# Altium footprint library PCBLib.PcbLib: 168 footprints (part 7 of 11)
Each footprint in its own frame and in the unit in brackets; x right, y up, seen from the top. Pads: shape width x height; smd on the part's side, far side on the other; paste and mask are expansions set on the pad; w line width, h text height; cw(c..) or ccw(c..) is an arc to the next point about the centre after c.
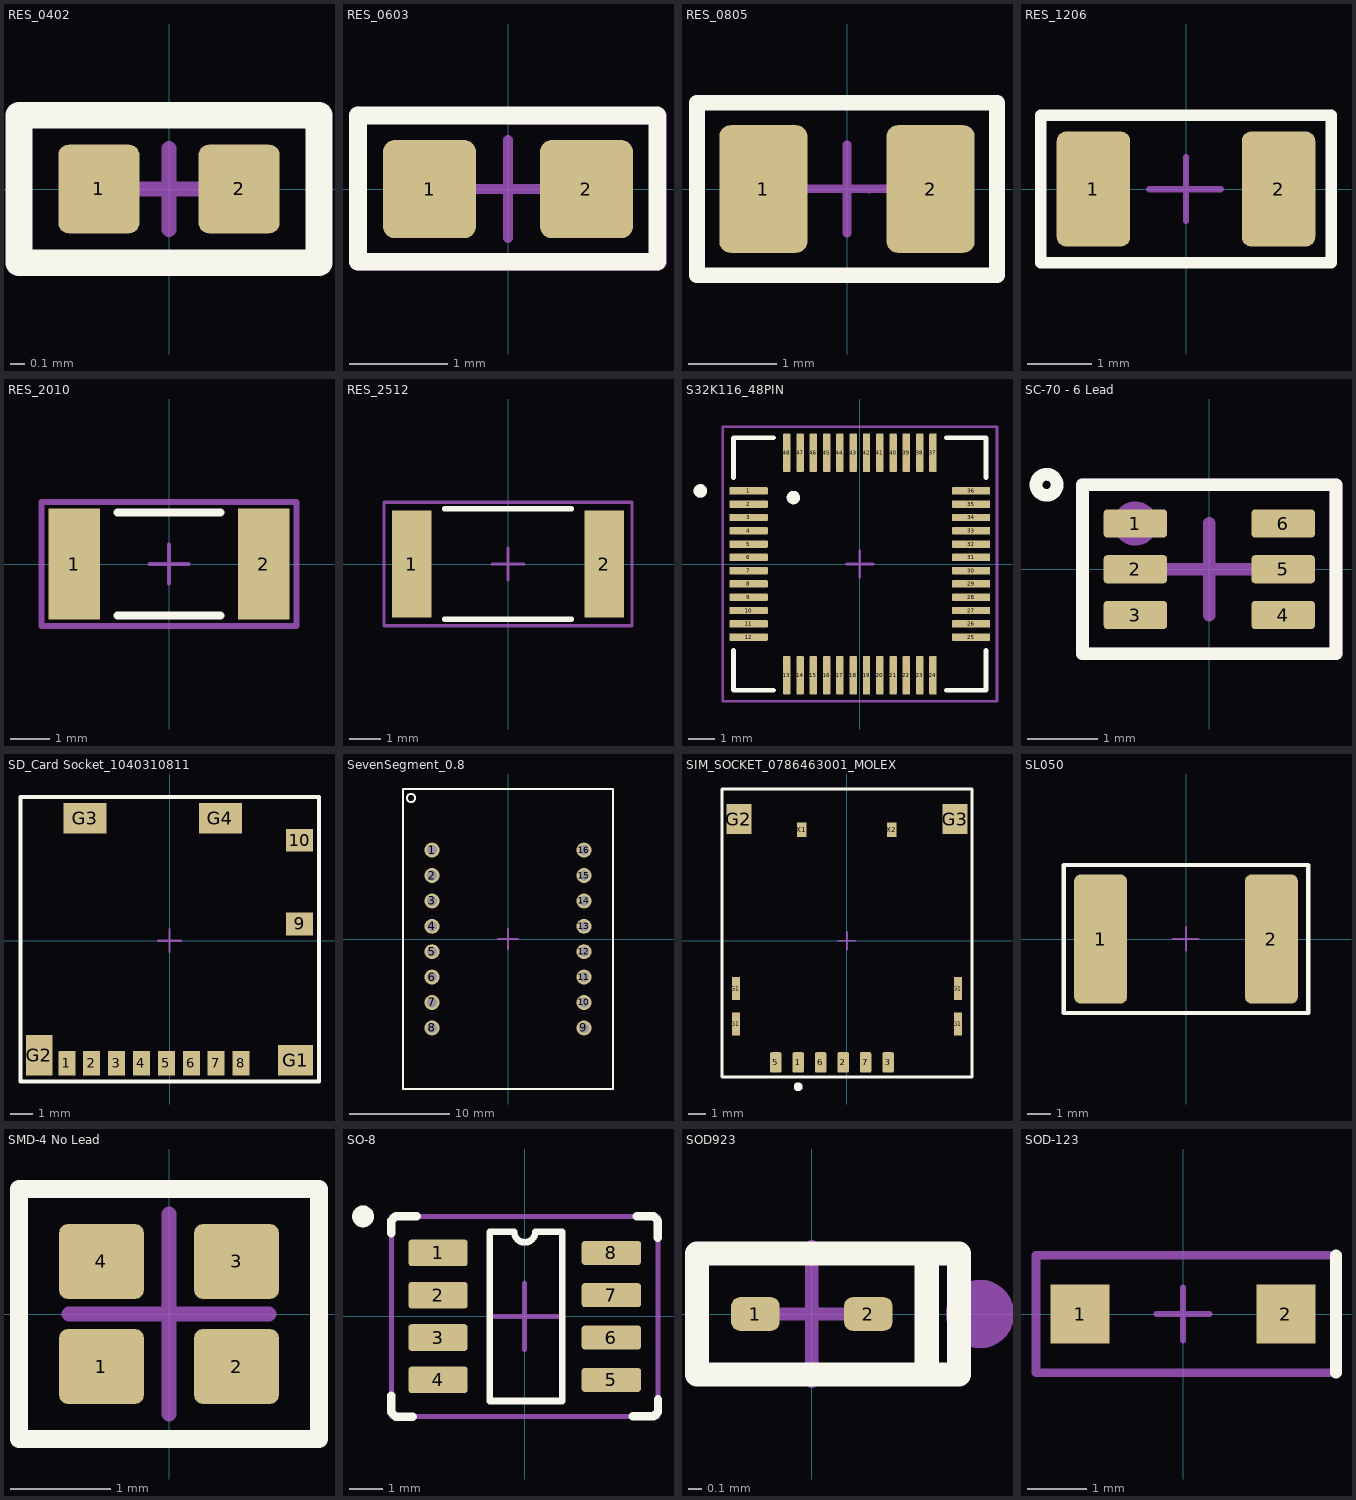
[diagram p6: the footprints below, top view; thin cyan lines are the x and y axes]

## RES_0402 [mm]
pads (2):
  rrect25% 0.55x0.6 smd mask+0.05: 1(-0.475,0) 2(0.475,0)
Top Overlay:
  lines w0.18: -1.016,-0.5 -1.016,0.5 0.762,0.5 1.016,0.5 1.016,-0.5 0.7,-0.5 -1.016,-0.5
Top Assembly:
  lines w0.1: -1.016,-0.508 -1.016,0.508 1.016,0.508 1.016,-0.508 -1.016,-0.508
Top Component Center:
  lines w0.1: -0.275,0 0.275,0 ; 0,-0.275 0,0.275
Top Courtyard:
  lines w0.05: -1.016,-0.5 -1.016,0.5 1.016,0.5 1.016,-0.5 -1.016,-0.5
Top Designator:
  text ".Designator" at -3.809,-0.254 h0.76
3D body "SMD-RES-10K-5_-1__0402_.step": height 0.4, standoff 0, extent -0.5,-0.25 0.5,0.25

## RES_0603 [mm]
pads (2):
  rrect25% 0.95x1 smd mask+0.05: 1(-0.8,0) 2(0.8,0)
Top Overlay:
  lines w0.18: -1.529,-0.742 1.52,-0.742 1.52,0.75 -1.529,0.75 -1.529,-0.742
Top Assembly:
  lines w0.18: -1.529,-0.742 1.529,-0.742 1.529,0.743 -1.529,0.752 -1.529,-0.742
Top Component Center:
  lines w0.1: -0.5,0 0.5,0 ; 0,-0.5 0,0.5
Top Courtyard:
  lines w0.05: -1.529,-0.75 1.529,-0.75 1.529,0.75 -1.529,0.75 -1.529,-0.75
Top Designator:
  text ".Designator" at -3.809,-0.254 h0.76
3D body "RC0603N_YAG.step": height 0.71, standoff 0, extent -0.8,-0.406 0.8,0.406

## RES_0805 [mm]
pads (2):
  rrect25% 1x1.45 smd mask+0.05: 1(-0.95,0) 2(0.95,0)
Top Overlay:
  lines w0.18: -1.704,-0.979 -1.704,0.979 1.704,0.979 1.704,-0.979 -1.704,-0.979
Top Assembly:
  lines w0.1: -1.704,-0.979 -1.704,0.979 1.704,0.979 1.704,-0.979 -1.704,-0.979
Top Component Center:
  lines w0.1: -0.498,0.002 0.502,0.002 ; 0,-0.5 0,0.5 ; 0.25,0 0.252,0.002
Top Courtyard:
  lines w0.05: -1.704,-0.979 -1.704,0.979 1.704,0.979 1.704,-0.979 -1.704,-0.979
Top Designator:
  text ".Designator" at -3.809,-0.252 h0.76
3D body "RC0805FR-072K7L.STEP": height 0.6, standoff 0, extent -1,-0.623 1,0.627

## RES_1206 [mm]
pads (2):
  rrect25% 1.15x1.8 smd mask+0.05: 1(-1.45,0.005) 2(1.45,0.005)
Top Overlay:
  lines w0.18: -2.279,-1.149 2.279,-1.149 2.279,1.159 -2.279,1.159 -2.279,-1.149
Top Assembly:
  lines w0.1: -2.279,-1.149 -2.279,1.159 2.279,1.159 2.279,-1.149 -2.279,-1.149
Top Component Center:
  lines w0.1: -0.575,0 0.543,0 ; 0,-0.495 0,0.505
Top Courtyard:
  lines w0.05: -2.279,-1.149 -2.279,1.159 2.279,1.159 2.279,-1.149 -2.279,-1.149
Top Designator:
  text ".Designator" at -3.809,-0.254 h0.76
3D body "RC1206JR-070RL--3DModel-STEP-510211.STEP": height 0.66, standoff 0, extent -1.55,-0.8 1.55,0.8

## RES_2010 [mm]
pads (2):
  rect 1.3x2.8 smd: 1(-2.4,0) 2(2.4,0)
Top Overlay:
  lines w0.2: -1.3,-1.3 1.3,-1.3 ; -1.3,1.3 1.3,1.3
Top Assembly:
  lines w0.15: -3.225,-1.575 -3.225,1.575 3.225,1.575 3.225,-1.575 -3.225,-1.575
Top Component Center:
  lines w0.1: -0.5,0 0.5,0 ; 0,-0.5 0,0.5
Top Courtyard:
  lines w0.05: -3.225,-1.575 -3.225,1.575 3.225,1.575 3.225,-1.575 -3.225,-1.575
Top Designator:
  text ".Designator" at -3.809,-0.254 h0.76
3D body "RES_RC2010_YAG.step": height 0.66, standoff 0, extent -2.553,-1.321 2.553,1.321

## RES_2512 [mm]
pads (2):
  rect 1.25x3.4 smd mask+0.05: 1(-3.05,0) 2(3.05,0)
Top Overlay:
  lines w0.18: -2,-1.75 2,-1.75 ; -2,1.75 2,1.75
Top Assembly:
  lines w0.1: -3.929,-1.954 3.929,-1.954 3.929,1.954 -3.929,1.954 -3.929,-1.954
Top Component Center:
  lines w0.1: -0.5,0 0.5,0 ; 0,-0.5 0,0.5
Top Courtyard:
  lines w0.05: -3.929,-1.954 3.929,-1.954 3.929,1.954 -3.929,1.954 -3.929,-1.954
Top Designator:
  text ".Designator" at -3.809,-0.254 h0.76
3D body "SR2512JK-7W100RL.STEP": height 0.65, standoff 0, extent -3.175,-1.55 3.175,1.55

## S32K116_48PIN [mm]
pads (48):
  rrect25% 1.44x0.28 smd: 1(-4.185,2.75) 2(-4.185,2.25) 3(-4.185,1.75) 4(-4.185,1.25) 5(-4.185,0.75) 6(-4.185,0.25) 7(-4.185,-0.25) 8(-4.185,-0.75) 9(-4.185,-1.25) 10(-4.185,-1.75) 11(-4.185,-2.25) 12(-4.185,-2.75) 25(4.185,-2.75) 26(4.185,-2.25) 27(4.185,-1.75) 28(4.185,-1.25) 29(4.185,-0.75) 30(4.185,-0.25) 31(4.185,0.25) 32(4.185,0.75) 33(4.185,1.25) 34(4.185,1.75) 35(4.185,2.25) 36(4.185,2.75)
  rrect25% 0.28x1.44 smd: 13(-2.75,-4.185) 14(-2.25,-4.185) 15(-1.75,-4.185) 16(-1.25,-4.185) 17(-0.75,-4.185) 18(-0.25,-4.185) 19(0.25,-4.185) 20(0.75,-4.185) 21(1.25,-4.185) 22(1.75,-4.185) 23(2.25,-4.185) 24(2.75,-4.185) 37(2.75,4.185) 38(2.25,4.185) 39(1.75,4.185) 40(1.25,4.185) 41(0.75,4.185) 42(0.25,4.185) 43(-0.25,4.185) 44(-0.75,4.185) 45(-1.25,4.185) 46(-1.75,4.185) 47(-2.25,4.185) 48(-2.75,4.185)
Top Overlay:
  circle w0.254: c-6,2.75 r0.127
  circle w0.254: c-2.5,2.5 r0.127
  lines w0.18: -4.75,-3.25 -4.75,-3.5 -4.75,-4.75 -3.25,-4.75 ; -4.75,3.25 -4.75,4.75 -3.25,4.75 ; 3.25,-4.75 4.75,-4.75 4.75,-3.25 ; 3.25,4.75 4.75,4.75 4.75,3.25
Top Assembly:
  circle w0.254: c-6,2.75 r0.127
  lines w0.1: -5.159,-5.159 5.159,-5.159 5.159,5.159 -5.159,5.159 -5.159,-5.159
Top Component Center:
  lines w0.1: -0.5,0 0,0 0.5,0 ; 0,-0.5 0,0.5
Top Courtyard:
  lines w0.05: -5.159,-5.159 5.159,-5.159 5.159,5.159 -5.159,5.159 -5.159,-5.159
Top Designator:
  text ".Designator" at -3.809,-0.254 h0.76
3D body "FS32K116LAT0MLFT.step": height 1.6, standoff 0, extent -4.5,-4.5 4.5,4.5

## SC-70 - 6 Lead [mm]
pads (6):
  rrect25% 0.9x0.4 smd mask+0.05: 1(-1.05,0.65) 2(-1.05,0) 3(-1.05,-0.65) 4(1.05,-0.65) 5(1.05,0) 6(1.05,0.65)
Top Overlay:
  circle w0.18: c-2.312,1.2 r0.15
  lines w0.18: -1.8,-1.2 1.8,-1.2 1.8,1.2 -1.8,1.2 -1.8,-1.2
Top Assembly:
  circle w0.18: c-1.05,0.65 r0.224
  lines w0.18: -1.8,-1.2 -1.8,1.2 1.8,1.2 1.8,-1.2 -1.8,-1.2
Top Component Center:
  lines w0.18: -0.65,0 0.65,0 ; 0,-0.65 0,0.65
Top Courtyard:
  lines w0.05: -1.8,-1.2 -1.8,1.2 1.8,1.2 1.8,-1.2 -1.8,-1.2
Top Designator:
  text ".Designator" at -3.809,-0.254 h0.76
3D body "SC-70-6_PSM.step": height 1.09, standoff 0, extent -1.105,-1.08 1.105,1.08

## SD_Card Socket_1040310811 [mm] "Molex"
pads (14):
  rect 0.75x1.1 smd mask+0.05: 1(-4.537,-5.412) 2(-3.437,-5.412) 3(-2.337,-5.412) 4(-1.237,-5.412) 5(-0.138,-5.412) 6(0.962,-5.412) 7(2.063,-5.412) 8(3.163,-5.412)
  rect 1.2x1 smd mask+0.05: 9(5.748,0.738) 10(5.748,4.438)
  rect 1.55x1.35 smd mask+0.05: G1(5.573,-5.287)
  rect 1.17x1.8 smd mask+0.05: G2(-5.747,-5.062)
  rect 1.9x1.35 smd mask+0.05: G3(-3.722,5.413) G4(2.248,5.413)
Top Overlay:
  lines w0.18: -6.586,-6.216 6.602,-6.216 6.602,6.342 -6.586,6.342 -6.586,-6.216
Top Assembly:
  lines w0.1: -6.586,-6.216 6.602,-6.216 6.602,6.342 -6.586,6.342 -6.586,-6.216
Top Component Center:
  lines w0.1: -0.5,0 0,0 0.5,0 ; 0,-0.5 0,0.5
Top Courtyard:
  lines w0.05: -6.586,-6.216 6.602,-6.216 6.602,6.342 -6.586,6.342 -6.586,-6.216
Top Designator:
  text ".Designator" at -3.809,-0.254 h0.76
3D body "1040310811.stp": height 1.34, standoff -0.11, extent -5.968,-5.662 5.983,5.738

## SevenSegment_0.8 [mm]
pads (16):
  round 1.5 hole 1 mask+0.05: 1(-7.6,8.89) 2(-7.6,6.35) 3(-7.6,3.81) 4(-7.6,1.27) 5(-7.6,-1.27) 6(-7.6,-3.81) 7(-7.6,-6.35) 8(-7.6,-8.89) 9(7.6,-8.89) 10(7.6,-6.35) 11(7.6,-3.81) 12(7.6,-1.27) 13(7.6,1.27) 14(7.6,3.81) 15(7.6,6.35) 16(7.6,8.89)
Top Overlay:
  circle w0.18: c-9.7,14.1 r0.412
  lines w0.18: -10.5,-15 -10.5,15 10.5,15 10.5,-15 -10.5,-15
Top Assembly:
  circle w0.18: c-9.7,14.1 r0.412
  lines w0.18: -10.5,-15 10.5,-15 10.5,15 -10.5,15 -10.5,-15
Top Component Center:
  lines w0.18: -1,0 1,0 ; 0,-1 0,1
Top Courtyard:
  lines w0.05: -10.5,-15 10.5,-15 10.5,15 -10.5,15 -10.5,-15
Top Designator:
  text ".Designator" at -3.809,-0.254 h0.76
3D body "SA08-11.sldprt": height 8.4, standoff -4, extent -10,-13.85 10,13.85

## SIM_SOCKET_0786463001_MOLEX [mm] "0786463001"
pads (14):
  rrect25% 0.65x1.15 smd: 1(-2.755,-6.875) 2(-0.215,-6.875) 3(2.325,-6.875) 5(-4.025,-6.875) 6(-1.485,-6.875) 7(1.055,-6.875)
  rect 0.45x1.3 smd: G1(-6.27,-4.705) G1(-6.27,-2.705) G1(6.27,-4.705) G1(6.27,-2.705)
  rect 1.4x1.7 smd: G2(-6.1,6.875) G3(6.11,6.875)
  rect 0.54x0.8 smd: X1(-2.54,6.275) X2(2.54,6.275)
Top Overlay:
  circle w0.254: c-2.75,-8.25 r0.127
  lines w0.18: -7.054,-7.704 -7.054,8.577 7.064,8.577 7.064,-7.704 -7.054,-7.704
Top Assembly:
  lines w0.1: -7.054,-7.704 -7.054,8.577 7.064,8.577 7.064,-7.704 -7.054,-7.704
Top Component Center:
  lines w0.1: -0.5,0 0.5,0 ; 0,-0.5 0,0.5
Top Courtyard:
  lines w0.05: -7.054,-7.704 7.064,-7.704 7.064,7.979 7.064,8.577 -7.054,8.577 -7.054,-7.704
Top Designator:
  text ".Designator" at -3.809,-0.254 h0.76
3D body "786463001.stp": height 1.46, standoff 0.01, extent -6.525,-7.285 6.525,8.165

## SL050 [mm]
pads (2):
  rrect25% 2.3x5.6 smd mask+0.05: 1(-3.7,0) 2(3.7,0)
Top Overlay:
  lines w0.18: -5.3,-3.2 5.3,-3.2 5.3,3.2 -5.3,3.2 -5.3,-3.2
Top Assembly:
  lines w0.1: -5.3,-3.2 -5.3,3.2 5.3,3.2 5.3,-3.2 -5.3,-3.2
Top Component Center:
  lines w0.1: -0.575,0 0.543,0 ; 0,-0.495 0,0.505
Top Courtyard:
  lines w0.05: -5.3,-3.2 -5.3,3.2 5.3,3.2 5.3,-3.2 -5.3,-3.2
Top Designator:
  text ".Designator" at -3.809,-0.254 h0.76
3D body "0ZCF0150FF2C.step": height 1.67, standoff -0.03, extent -3.678,-2.56 3.678,2.56

## SMD-4 No Lead [mm]
pads (4):
  rrect25% 0.85x0.75 smd mask+0.05: 1(-0.675,-0.525) 2(0.675,-0.525) 3(0.675,0.525) 4(-0.675,0.525)
Top Overlay:
  lines w0.18: -1.5,-1.25 1.5,-1.25 1.5,1.25 -1.5,1.25 -1.5,-1.25
Top Assembly:
  lines w0.15: -1.5,-1.25 -1.5,1.25 1.5,1.25 1.5,-1.25 -1.5,-1.25
Top Component Center:
  lines w0.15: -1,0 1,0 ; 0,-1 0,1
Top Courtyard:
  lines w0.05: -1.5,-1.25 -1.5,1.25 1.5,1.25 1.5,-1.25 -1.5,-1.25
Top Designator:
  text ".Designator" at -3.809,-0.254 h0.76
3D body "ECS-320-10-37B-CKY-TR.step": height 0.5, standoff 0, extent -1,-0.8 1,0.8

## SO-8 [mm] "1.27mm pitch"
pads (8):
  rrect25% 1.78x0.8 smd: 1(-2.6,1.905) 2(-2.6,0.635) 3(-2.6,-0.635) 4(-2.6,-1.905)
  rrect25% 1.78x0.72 smd: 5(2.6,-1.905) 6(2.6,-0.635) 7(2.6,0.635) 8(2.6,1.905)
Top Overlay:
  circle w0.35: c-4.851,3 r0.152
  lines w0.2: -1.05,-2.54 -1.05,2.54 -0.318,2.54 ccw(c0,2.54) 0.318,2.54 1.125,2.54 1.125,-2.54 -1.05,-2.54
  lines w0.254: -4,-2.374 -4,-2.882 -3.873,-3.009 -3.365,-3.009 ; -4,2.497 -4,2.878 -3.873,3.005 -3.238,3.005 ; 3.238,-2.998 3.873,-2.998 4,-2.871 4,-2.49 ; 3.36,3 3.868,3 3.995,2.873 3.995,2.365
Top Assembly:
  circle w0.3: c-4.851,3 r0.149
  lines w0.15: -4,-3 -4,3 4,3 4,-3 -4,-3
Top Component Center:
  lines w0.15: -1,0 1,0 ; 0,-1 0,1
Top Courtyard:
  lines w0.05: -4,-3 -4,3 4,3 4,-3 -4,-3
Top Designator:
  text ".Designator" at -3.809,-0.254 h0.76
3D body "IRF7319TRPBF.step": height 1.75, standoff 0, extent -3.025,-2.475 2.975,2.425

## SOD923 [mm]
pads (2):
  rrect50% 0.36x0.25 smd mask+0.05: 1(-0.42,0) 2(0.42,0)
Top Overlay:
  lines w0.18: 0.854,-0.45 -0.854,-0.45 -0.854,0.45 0.854,0.45 ; 0.854,-0.45 0.854,0.45 ; 0.854,-0.45 1.094,-0.45 1.094,0.45 0.854,0.45
Top Assembly:
  circle w0.254: c1.25,0 r0.127
  lines w0.1: -0.854,-0.45 -0.854,0.45 0.854,0.45 0.854,-0.45 -0.854,-0.45
Top Component Center:
  lines w0.1: -0.5,0 0.5,0 ; 0,-0.5 0,0.5
Top Courtyard:
  lines w0.05: -0.854,-0.45 -0.854,0.45 0.854,0.45 0.854,-0.45 -0.854,-0.45
Top Designator:
  text ".Designator" at -3.809,-0.254 h0.76
3D body "ESD9X3.3ST5G.step": height 0.4, standoff 0, extent -0.5,-0.3 0.5,0.3

## SOD-123 [mm]
pads (2):
  rect 1x1 smd mask+0.05: 1(-1.75,0) 2(1.75,0)
Top Overlay:
  lines w0.2: 2.6,-1 2.6,1
Top Assembly:
  lines w0.15: -2.5,-1 2.6,-1 2.6,1 -2.5,1 -2.5,-1
Top Component Center:
  lines w0.1: -0.45,0 0.45,0 ; 0,-0.45 0,0.45
Top Courtyard:
  lines w0.05: -2.5,-1 2.6,-1 2.6,1 -2.5,1 -2.5,-1
Top Designator:
  text ".Designator" at -3.809,-0.254 h0.76
3D body "CDBW.step": height 1.35, standoff 0, extent -1.956,-0.902 1.956,0.902